# EAGLE library part TXB0102 (library all-chips)
2-Bit Bi-Directional Level Shifter Texas Instruments 1.2V-3.6V (VCCA) to 1.65V-5.5V (VCCB) bi-directional level shifter with auto direction sensing.
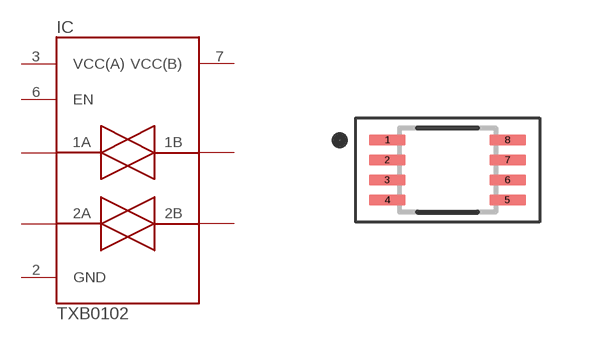
[diagram p36: symbol with the pads of VSSOP8_2.30X2.00MM; footprint VSSOP8_2.30X2.00MM]

Designator prefix IC

## TXB0102DCUR  [VSSOP8_2.30X2.00MM]
1  2B
2  GND  pwr
3  VCC(A)  pwr
4  2A
5  1A
6  EN  in
7  VCC(B)  pwr
8  1B

## Footprint VSSOP8_2.30X2.00MM (pad centres in mm)
https://www.ti.com/lit/ml/mpds050d/mpds050d.pdf
smd 0.923 x 0.268: 1 -1.503,0.75; 2 -1.503,0.25; 3 -1.503,-0.25; 4 -1.503,-0.75; 5 1.503,-0.75; 6 1.503,-0.25; 7 1.503,0.25; 8 1.503,0.75